# Altium schematic symbol library kmilo17pet-TI_LDO_0_350.SchLib: 1649 symbols (part 9 of 66)
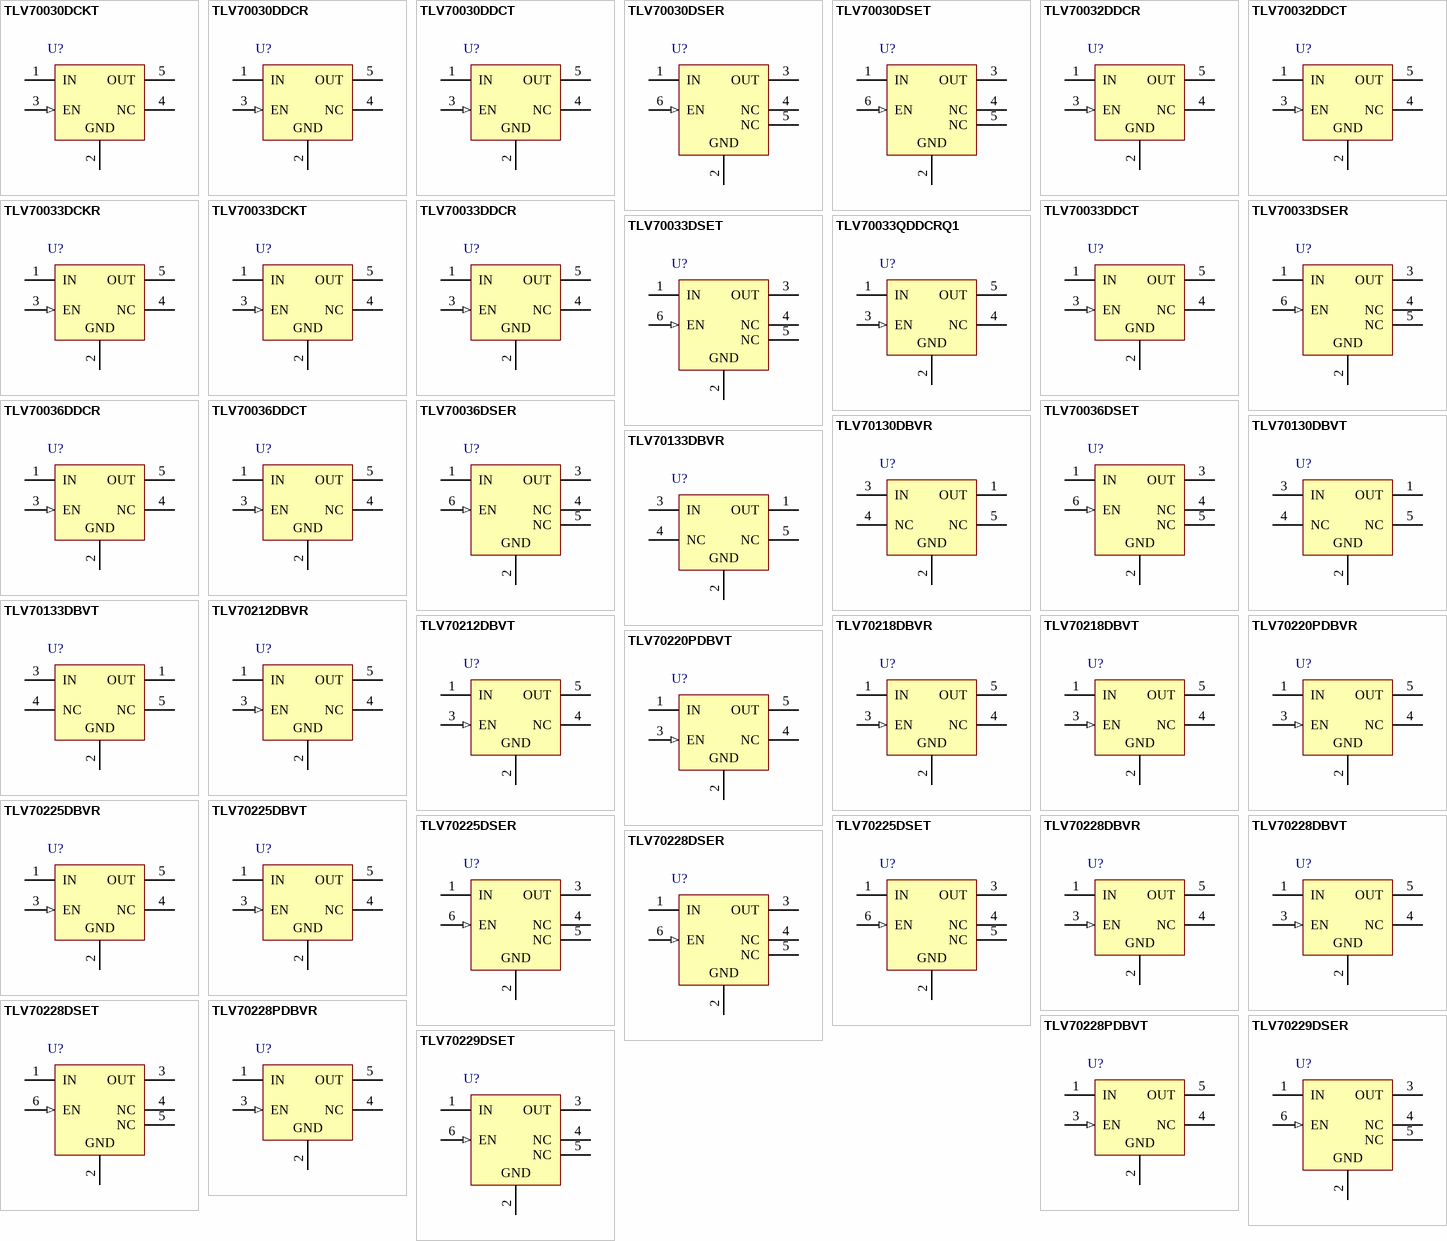
[diagram p50: symbols TLV70030DCKT to TLV70229DSET]

## TLV70228DBVR
designator U?
Single Output LDO, 300 mA, Fixed 2.8 V Output, 2 to 5.5 V Input, with Low IQ, 5-pin SOT-23 (DBV), -40 to 125 degC, Green (RoHS & no Sb/Br); Manufacturer: Texas Instruments; PartNumber: TLV70228DBVR; Accuracy(%): 2; Fixed Output Options(V): 2.8; Iout(Max)(A): 0.3; Iq(Typ)(mA): 0.03; SubFamily: Single Channel LDO; Vdo(Typ)(mV): 220; Vin(Max)(V): 5.5; DatasheetVersion: SLVSAG6B; PackageVersion: 4073253-4/K; PackageReference: DBV5; PackageDescription: 5-Pin Plastic Small Outline, Body 1.60 Ã— 2.90 mm, Pitch 0.95 mm; Supplier 1: Digi-Key; Supplier Part Number 1: TLV70228DBVR-ND; Supplier 2: Newark; Supplier Part Number 2: 13T5901; Supplier 3: Mouser; Supplier Part Number 3: 595-TLV70228DBVR; Eco-Plan: Green (RoHS & no Sb/Br); Vin(Min)(V): 2; Vout Adj(Max)(V): 2.8; Vout Adj(Min)(V): 2.8; Mounting Technology: Surface Mount; Code_JEDEC: MO-178; ComponentLink1Description: Manufacturer URL; ComponentLink1URL: http://www.ti.com/; ComponentLink2Description: Datasheet; ComponentLink2URL: http://www.ti.com/general/docs/lit/getliterature.tsp?genericPartNumber=TLV70228&fileType=pdf; ComponentLink3Description: Package Specification; ComponentLink3URL: http://www.ti.com/litv/pdf/mpds018i
footprint TI-DBV5_N (SOT23, 5-Leads, Body 2.9x1.6mm, Pitch 0.95mm, IPC Medium Density)
footprint TI-DBV5_L (SOT23, 5-Leads, Body 2.9x1.6mm, Pitch 0.95mm, IPC High Density)
footprint TI-DBV5_M (SOT23, 5-Leads, Body 2.9x1.6mm, Pitch 0.95mm, IPC Low Density)
pins: 1 IN (power) "Input supply voltage", 2 GND (power) "Ground", 3 EN (in) "Enable input", 4 NC "No connected", 5 OUT (power) "Regulated output voltage"

## TLV70228DBVT
designator U?
Single Output LDO, 300 mA, Fixed 2.8 V Output, 2 to 5.5 V Input, with Low IQ, 5-pin SOT-23 (DBV), -40 to 125 degC, Green (RoHS & no Sb/Br); Manufacturer: Texas Instruments; PartNumber: TLV70228DBVT; Accuracy(%): 2; Fixed Output Options(V): 2.8; Iout(Max)(A): 0.3; Iq(Typ)(mA): 0.03; SubFamily: Single Channel LDO; Vdo(Typ)(mV): 220; Vin(Max)(V): 5.5; DatasheetVersion: SLVSAG6B; PackageVersion: 4073253-4/K; PackageReference: DBV5; PackageDescription: 5-Pin Plastic Small Outline, Body 1.60 Ã— 2.90 mm, Pitch 0.95 mm; Supplier 1: Digi-Key; Supplier Part Number 1: 296-27891-2-ND; Supplier 2: Digi-Key; Supplier Part Number 2: 296-27891-1-ND; Supplier 3: Digi-Key; Supplier Part Number 3: 296-27891-6-ND; Supplier 4: Newark; Supplier Part Number 4: 13T5902; Supplier 5: Mouser; Supplier Part Number 5: 595-TLV70228DBVT; Eco-Plan: Green (RoHS & no Sb/Br); Vin(Min)(V): 2; Vout Adj(Max)(V): 2.8; Vout Adj(Min)(V): 2.8; Mounting Technology: Surface Mount; Code_JEDEC: MO-178; ComponentLink1Description: Manufacturer URL; ComponentLink1URL: http://www.ti.com/; ComponentLink2Description: Datasheet; ComponentLink2URL: http://www.ti.com/general/docs/lit/getliterature.tsp?genericPartNumber=TLV70228&fileType=pdf; ComponentLink3Description: Package Specification; ComponentLink3URL: http://www.ti.com/litv/pdf/mpds018i
footprint TI-DBV5_N (SOT23, 5-Leads, Body 2.9x1.6mm, Pitch 0.95mm, IPC Medium Density)
footprint TI-DBV5_L (SOT23, 5-Leads, Body 2.9x1.6mm, Pitch 0.95mm, IPC High Density)
footprint TI-DBV5_M (SOT23, 5-Leads, Body 2.9x1.6mm, Pitch 0.95mm, IPC Low Density)
pins: 1 IN (power) "Input supply voltage", 2 GND (power) "Ground", 3 EN (in) "Enable input", 4 NC "No connected", 5 OUT (power) "Regulated output voltage"

## TLV70228DSER
designator U?
Single Output LDO, 300 mA, Fixed 2.8 V Output, 2 to 5.5 V Input, with Low IQ, 6-pin WSON (DSE), -40 to 125 degC, Green (RoHS & no Sb/Br); Manufacturer: Texas Instruments; PartNumber: TLV70228DSER; Accuracy(%): 2; Fixed Output Options(V): 2.8; Iout(Max)(A): 0.3; Iq(Typ)(mA): 0.03; SubFamily: Single Channel LDO; Vdo(Typ)(mV): 220; Vin(Max)(V): 5.5; DatasheetVersion: SLVSAG6B; PackageVersion: 4207810/A; PackageReference: DSE6; PackageDescription: 6-Pin Plastic Small Outline, Body 1.5 x 1.5 mm, Pitch 0.5 mm; Supplier 1: Digi-Key; Supplier Part Number 1: 296-30243-2-ND; Supplier 2: Digi-Key; Supplier Part Number 2: 296-30243-1-ND; Supplier 3: Digi-Key; Supplier Part Number 3: 296-30243-6-ND; Supplier 4: Farnell; Supplier Part Number 4: 2095831; Supplier 5: Newark; Supplier Part Number 5: 87T3939; Supplier 6: Mouser; Supplier Part Number 6: 595-TLV70228DSER; Eco-Plan: Green (RoHS & no Sb/Br); Vin(Min)(V): 2; Vout Adj(Max)(V): 2.8; Vout Adj(Min)(V): 2.8; Mounting Technology: Surface Mount; ComponentLink1Description: Manufacturer URL; ComponentLink1URL: http://www.ti.com/; ComponentLink2Description: Datasheet; ComponentLink2URL: http://www.ti.com/general/docs/lit/getliterature.tsp?genericPartNumber=TLV70228&fileType=pdf; ComponentLink3Description: Package Specification; ComponentLink3URL: http://www.ti.com/litv/pdf/mpds287
footprint TI-DSE6_V (SON, 6-Leads, Body 1.5x1.5mm, Pitch 0.5mm)
pins: 1 IN (power) "Input pin. A small 1-uF ceramic capacitor is recommended from this pin to ground to assure stability and good transient performance. See Input and Output Capacitor Requirements in the Application Information section for more (See Datasheet)", 2 GND (power) "Ground pin", 3 OUT (power) "Regulated output voltage pin. A small 1-uF ceramic capacitor is needed from this pin to ground to assure stability. See Input and Output Capacitor Requirements in the Application Information section for more details", 4 NC "No connection. This pin can be tied to ground to improve thermal dissipation", 5 NC "No connection. This pin can be tied to ground to improve thermal dissipation", 6 EN (in) "Enable pin. Driving EN over 0.9 V turns on the regulator. Driving EN below 0.4 V puts the regulator into shutdown mode and reduces operating current to 1 uA, nominal"

## TLV70228DSET
designator U?
Single Output LDO, 300 mA, Fixed 2.8 V Output, 2 to 5.5 V Input, with Low IQ, 6-pin WSON (DSE), -40 to 125 degC, Green (RoHS & no Sb/Br); Manufacturer: Texas Instruments; PartNumber: TLV70228DSET; Accuracy(%): 2; Fixed Output Options(V): 2.8; Iout(Max)(A): 0.3; Iq(Typ)(mA): 0.03; SubFamily: Single Channel LDO; Vdo(Typ)(mV): 220; Vin(Max)(V): 5.5; DatasheetVersion: SLVSAG6B; PackageVersion: 4207810/A; PackageReference: DSE6; PackageDescription: 6-Pin Plastic Small Outline, Body 1.5 x 1.5 mm, Pitch 0.5 mm; Supplier 1: Digi-Key; Supplier Part Number 1: 296-32414-2-ND; Supplier 2: Digi-Key; Supplier Part Number 2: 296-32414-1-ND; Supplier 3: Digi-Key; Supplier Part Number 3: 296-32414-6-ND; Supplier 4: Mouser; Supplier Part Number 4: 595-TLV70228DSET; Eco-Plan: Green (RoHS & no Sb/Br); Vin(Min)(V): 2; Vout Adj(Max)(V): 2.8; Vout Adj(Min)(V): 2.8; Mounting Technology: Surface Mount; ComponentLink1Description: Manufacturer URL; ComponentLink1URL: http://www.ti.com/; ComponentLink2Description: Datasheet; ComponentLink2URL: http://www.ti.com/general/docs/lit/getliterature.tsp?genericPartNumber=TLV70228&fileType=pdf; ComponentLink3Description: Package Specification; ComponentLink3URL: http://www.ti.com/litv/pdf/mpds287
footprint TI-DSE6_V (SON, 6-Leads, Body 1.5x1.5mm, Pitch 0.5mm)
pins: 1 IN (power) "Input pin. A small 1-uF ceramic capacitor is recommended from this pin to ground to assure stability and good transient performance. See Input and Output Capacitor Requirements in the Application Information section for more (See Datasheet)", 2 GND (power) "Ground pin", 3 OUT (power) "Regulated output voltage pin. A small 1-uF ceramic capacitor is needed from this pin to ground to assure stability. See Input and Output Capacitor Requirements in the Application Information section for more details", 4 NC "No connection. This pin can be tied to ground to improve thermal dissipation", 5 NC "No connection. This pin can be tied to ground to improve thermal dissipation", 6 EN (in) "Enable pin. Driving EN over 0.9 V turns on the regulator. Driving EN below 0.4 V puts the regulator into shutdown mode and reduces operating current to 1 uA, nominal"

## TLV70228PDBVR
designator U?
Single Output LDO, 300 mA, Fixed 2.8 V Output, 2 to 5.5 V Input, with Low IQ, 5-pin SOT-23 (DBV), -40 to 125 degC, Green (RoHS & no Sb/Br); Manufacturer: Texas Instruments; PartNumber: TLV70228PDBVR; Accuracy(%): 2; Fixed Output Options(V): 2.8; Iout(Max)(A): 0.3; Iq(Typ)(mA): 0.03; SubFamily: Single Channel LDO; Vdo(Typ)(mV): 220; Vin(Max)(V): 5.5; DatasheetVersion: SLVSAG6B; PackageVersion: 4073253-4/K; PackageReference: DBV5; PackageDescription: 5-Pin Plastic Small Outline, Body 1.60 Ã— 2.90 mm, Pitch 0.95 mm; Supplier 1: Digi-Key; Supplier Part Number 1: TLV70228PDBVR-ND; Supplier 2: Mouser; Supplier Part Number 2: 595-TLV70228PDBVR; Eco-Plan: Green (RoHS & no Sb/Br); Vin(Min)(V): 2; Vout Adj(Max)(V): 2.8; Vout Adj(Min)(V): 2.8; Mounting Technology: Surface Mount; Code_JEDEC: MO-178; ComponentLink1Description: Manufacturer URL; ComponentLink1URL: http://www.ti.com/; ComponentLink2Description: Datasheet; ComponentLink2URL: http://www.ti.com/general/docs/lit/getliterature.tsp?genericPartNumber=TLV70228&fileType=pdf; ComponentLink3Description: Package Specification; ComponentLink3URL: http://www.ti.com/litv/pdf/mpds018i
footprint TI-DBV5_N (SOT23, 5-Leads, Body 2.9x1.6mm, Pitch 0.95mm, IPC Medium Density)
footprint TI-DBV5_L (SOT23, 5-Leads, Body 2.9x1.6mm, Pitch 0.95mm, IPC High Density)
footprint TI-DBV5_M (SOT23, 5-Leads, Body 2.9x1.6mm, Pitch 0.95mm, IPC Low Density)
pins: 1 IN (power) "Input supply voltage", 2 GND (power) "Ground", 3 EN (in) "Enable input", 4 NC "No connected", 5 OUT (power) "Regulated output voltage"

## TLV70228PDBVT
designator U?
Single Output LDO, 300 mA, Fixed 2.8 V Output, 2 to 5.5 V Input, with Low IQ, 5-pin SOT-23 (DBV), -40 to 125 degC, Green (RoHS & no Sb/Br); Manufacturer: Texas Instruments; PartNumber: TLV70228PDBVT; Accuracy(%): 2; Fixed Output Options(V): 2.8; Iout(Max)(A): 0.3; Iq(Typ)(mA): 0.03; SubFamily: Single Channel LDO; Vdo(Typ)(mV): 220; Vin(Max)(V): 5.5; DatasheetVersion: SLVSAG6B; PackageVersion: 4073253-4/K; PackageReference: DBV5; PackageDescription: 5-Pin Plastic Small Outline, Body 1.60 Ã— 2.90 mm, Pitch 0.95 mm; Supplier 1: Digi-Key; Supplier Part Number 1: 296-27892-2-ND; Supplier 2: Digi-Key; Supplier Part Number 2: 296-27892-1-ND; Supplier 3: Digi-Key; Supplier Part Number 3: 296-27892-6-ND; Supplier 4: Mouser; Supplier Part Number 4: 595-TLV70228PDBVT; Eco-Plan: Green (RoHS & no Sb/Br); Vin(Min)(V): 2; Vout Adj(Max)(V): 2.8; Vout Adj(Min)(V): 2.8; Mounting Technology: Surface Mount; Code_JEDEC: MO-178; ComponentLink1Description: Manufacturer URL; ComponentLink1URL: http://www.ti.com/; ComponentLink2Description: Datasheet; ComponentLink2URL: http://www.ti.com/general/docs/lit/getliterature.tsp?genericPartNumber=TLV70228&fileType=pdf; ComponentLink3Description: Package Specification; ComponentLink3URL: http://www.ti.com/litv/pdf/mpds018i
footprint TI-DBV5_N (SOT23, 5-Leads, Body 2.9x1.6mm, Pitch 0.95mm, IPC Medium Density)
footprint TI-DBV5_L (SOT23, 5-Leads, Body 2.9x1.6mm, Pitch 0.95mm, IPC High Density)
footprint TI-DBV5_M (SOT23, 5-Leads, Body 2.9x1.6mm, Pitch 0.95mm, IPC Low Density)
pins: 1 IN (power) "Input supply voltage", 2 GND (power) "Ground", 3 EN (in) "Enable input", 4 NC "No connected", 5 OUT (power) "Regulated output voltage"

## TLV70229DSER
designator U?
Single Output LDO, 300 mA, Fixed 2.9 V Output, 2 to 5.5 V Input, with Low IQ, 6-pin WSON (DSE), -40 to 125 degC, Green (RoHS & no Sb/Br); Manufacturer: Texas Instruments; PartNumber: TLV70229DSER; Accuracy(%): 2; Fixed Output Options(V): 2.9; Iout(Max)(A): 0.3; Iq(Typ)(mA): 0.03; SubFamily: Single Channel LDO; Vdo(Typ)(mV): 220; Vin(Max)(V): 5.5; DatasheetVersion: SLVSAG6B; PackageVersion: 4207810/A; PackageReference: DSE6; PackageDescription: 6-Pin Plastic Small Outline, Body 1.5 x 1.5 mm, Pitch 0.5 mm; Supplier 1: Digi-Key; Supplier Part Number 1: TLV70229DSER-ND; Supplier 2: Mouser; Supplier Part Number 2: 595-TLV70229DSER; Eco-Plan: Green (RoHS & no Sb/Br); Vin(Min)(V): 2; Vout Adj(Max)(V): 2.9; Vout Adj(Min)(V): 2.9; Mounting Technology: Surface Mount; ComponentLink1Description: Manufacturer URL; ComponentLink1URL: http://www.ti.com/; ComponentLink2Description: Datasheet; ComponentLink2URL: http://www.ti.com/general/docs/lit/getliterature.tsp?genericPartNumber=TLV70229&fileType=pdf; ComponentLink3Description: Package Specification; ComponentLink3URL: http://www.ti.com/litv/pdf/mpds287
footprint TI-DSE6_V (SON, 6-Leads, Body 1.5x1.5mm, Pitch 0.5mm)
pins: 1 IN (power) "Input pin. A small 1-uF ceramic capacitor is recommended from this pin to ground to assure stability and good transient performance. See Input and Output Capacitor Requirements in the Application Information section for more (See Datasheet)", 2 GND (power) "Ground pin", 3 OUT (power) "Regulated output voltage pin. A small 1-uF ceramic capacitor is needed from this pin to ground to assure stability. See Input and Output Capacitor Requirements in the Application Information section for more details", 4 NC "No connection. This pin can be tied to ground to improve thermal dissipation", 5 NC "No connection. This pin can be tied to ground to improve thermal dissipation", 6 EN (in) "Enable pin. Driving EN over 0.9 V turns on the regulator. Driving EN below 0.4 V puts the regulator into shutdown mode and reduces operating current to 1 uA, nominal"

## TLV70229DSET
designator U?
Single Output LDO, 300 mA, Fixed 2.9 V Output, 2 to 5.5 V Input, with Low IQ, 6-pin WSON (DSE), -40 to 125 degC, Green (RoHS & no Sb/Br); Manufacturer: Texas Instruments; PartNumber: TLV70229DSET; Accuracy(%): 2; Fixed Output Options(V): 2.9; Iout(Max)(A): 0.3; Iq(Typ)(mA): 0.03; SubFamily: Single Channel LDO; Vdo(Typ)(mV): 220; Vin(Max)(V): 5.5; DatasheetVersion: SLVSAG6B; PackageVersion: 4207810/A; PackageReference: DSE6; PackageDescription: 6-Pin Plastic Small Outline, Body 1.5 x 1.5 mm, Pitch 0.5 mm; Supplier 1: Digi-Key; Supplier Part Number 1: 296-28337-2-ND; Supplier 2: Digi-Key; Supplier Part Number 2: 296-28337-1-ND; Supplier 3: Digi-Key; Supplier Part Number 3: 296-28337-6-ND; Supplier 4: Mouser; Supplier Part Number 4: 595-TLV70229DSET; Eco-Plan: Green (RoHS & no Sb/Br); Vin(Min)(V): 2; Vout Adj(Max)(V): 2.9; Vout Adj(Min)(V): 2.9; Mounting Technology: Surface Mount; ComponentLink1Description: Manufacturer URL; ComponentLink1URL: http://www.ti.com/; ComponentLink2Description: Datasheet; ComponentLink2URL: http://www.ti.com/general/docs/lit/getliterature.tsp?genericPartNumber=TLV70229&fileType=pdf; ComponentLink3Description: Package Specification; ComponentLink3URL: http://www.ti.com/litv/pdf/mpds287
footprint TI-DSE6_V (SON, 6-Leads, Body 1.5x1.5mm, Pitch 0.5mm)
pins: 1 IN (power) "Input pin. A small 1-uF ceramic capacitor is recommended from this pin to ground to assure stability and good transient performance. See Input and Output Capacitor Requirements in the Application Information section for more (See Datasheet)", 2 GND (power) "Ground pin", 3 OUT (power) "Regulated output voltage pin. A small 1-uF ceramic capacitor is needed from this pin to ground to assure stability. See Input and Output Capacitor Requirements in the Application Information section for more details", 4 NC "No connection. This pin can be tied to ground to improve thermal dissipation", 5 NC "No connection. This pin can be tied to ground to improve thermal dissipation", 6 EN (in) "Enable pin. Driving EN over 0.9 V turns on the regulator. Driving EN below 0.4 V puts the regulator into shutdown mode and reduces operating current to 1 uA, nominal"

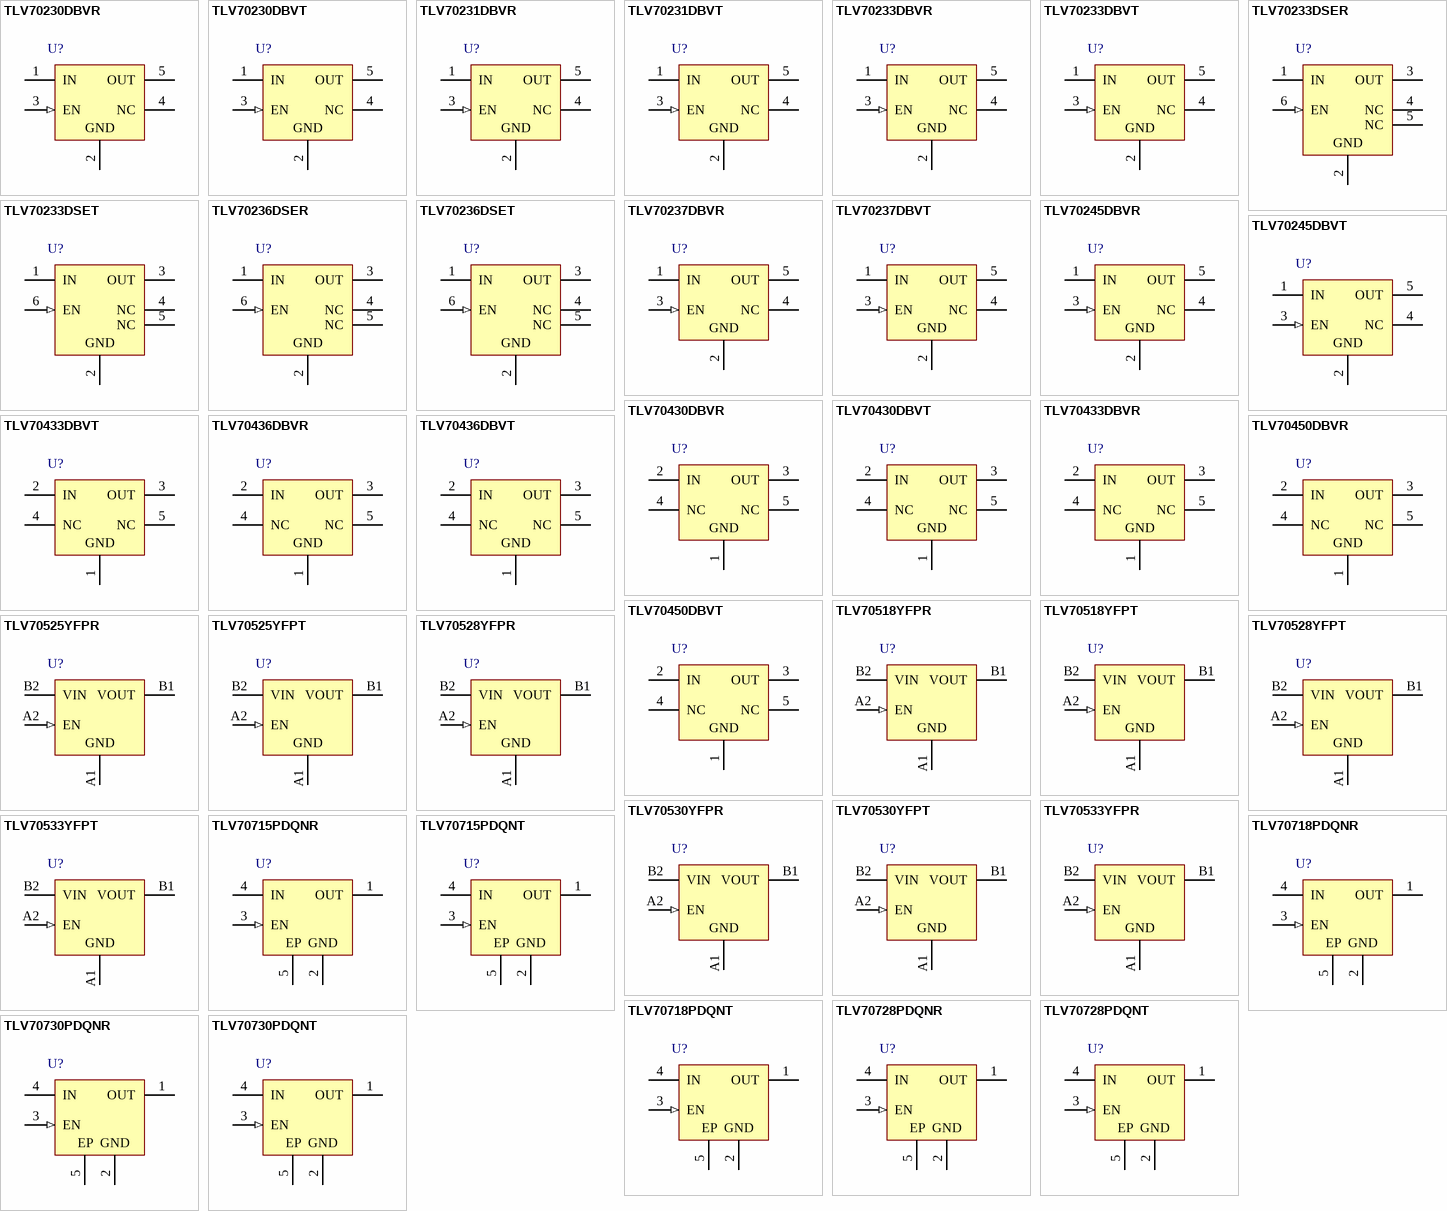
[diagram p6: symbols TLV70230DBVR to TLV70730PDQNT]

## TLV70230DBVR
designator U?
Single Output LDO, 300 mA, Fixed 3 V Output, 2 to 5.5 V Input, with Low IQ, 5-pin SOT-23 (DBV), -40 to 125 degC, Green (RoHS & no Sb/Br); Manufacturer: Texas Instruments; PartNumber: TLV70230DBVR; Accuracy(%): 2; Fixed Output Options(V): 3; Iout(Max)(A): 0.3; Iq(Typ)(mA): 0.03; SubFamily: Single Channel LDO; Vdo(Typ)(mV): 220; Vin(Max)(V): 5.5; DatasheetVersion: SLVSAG6B; PackageVersion: 4073253-4/K; PackageReference: DBV5; PackageDescription: 5-Pin Plastic Small Outline, Body 1.60 Ã— 2.90 mm, Pitch 0.95 mm; Supplier 1: Digi-Key; Supplier Part Number 1: TLV70230DBVR-ND; Supplier 2: Newark; Supplier Part Number 2: 13T5905; Supplier 3: Mouser; Supplier Part Number 3: 595-TLV70230DBVR; Eco-Plan: Green (RoHS & no Sb/Br); Vin(Min)(V): 2; Vout Adj(Max)(V): 3; Vout Adj(Min)(V): 3; Mounting Technology: Surface Mount; Code_JEDEC: MO-178; ComponentLink1Description: Manufacturer URL; ComponentLink1URL: http://www.ti.com/; ComponentLink2Description: Datasheet; ComponentLink2URL: http://www.ti.com/general/docs/lit/getliterature.tsp?genericPartNumber=TLV70230&fileType=pdf; ComponentLink3Description: Package Specification; ComponentLink3URL: http://www.ti.com/litv/pdf/mpds018i
footprint TI-DBV5_N (SOT23, 5-Leads, Body 2.9x1.6mm, Pitch 0.95mm, IPC Medium Density)
footprint TI-DBV5_L (SOT23, 5-Leads, Body 2.9x1.6mm, Pitch 0.95mm, IPC High Density)
footprint TI-DBV5_M (SOT23, 5-Leads, Body 2.9x1.6mm, Pitch 0.95mm, IPC Low Density)
pins: 1 IN (power) "Input supply voltage", 2 GND (power) "Ground", 3 EN (in) "Enable input", 4 NC "No connected", 5 OUT (power) "Regulated output voltage"

## TLV70230DBVT
designator U?
Single Output LDO, 300 mA, Fixed 3 V Output, 2 to 5.5 V Input, with Low IQ, 5-pin SOT-23 (DBV), -40 to 125 degC, Green (RoHS & no Sb/Br); Manufacturer: Texas Instruments; PartNumber: TLV70230DBVT; Accuracy(%): 2; Fixed Output Options(V): 3; Iout(Max)(A): 0.3; Iq(Typ)(mA): 0.03; SubFamily: Single Channel LDO; Vdo(Typ)(mV): 220; Vin(Max)(V): 5.5; DatasheetVersion: SLVSAG6B; PackageVersion: 4073253-4/K; PackageReference: DBV5; PackageDescription: 5-Pin Plastic Small Outline, Body 1.60 Ã— 2.90 mm, Pitch 0.95 mm; Supplier 1: Digi-Key; Supplier Part Number 1: 296-27893-2-ND; Supplier 2: Digi-Key; Supplier Part Number 2: 296-27893-1-ND; Supplier 3: Digi-Key; Supplier Part Number 3: 296-27893-6-ND; Supplier 4: Newark; Supplier Part Number 4: 13T5906; Supplier 5: Mouser; Supplier Part Number 5: 595-TLV70230DBVT; Eco-Plan: Green (RoHS & no Sb/Br); Vin(Min)(V): 2; Vout Adj(Max)(V): 3; Vout Adj(Min)(V): 3; Mounting Technology: Surface Mount; Code_JEDEC: MO-178; ComponentLink1Description: Manufacturer URL; ComponentLink1URL: http://www.ti.com/; ComponentLink2Description: Datasheet; ComponentLink2URL: http://www.ti.com/general/docs/lit/getliterature.tsp?genericPartNumber=TLV70230&fileType=pdf; ComponentLink3Description: Package Specification; ComponentLink3URL: http://www.ti.com/litv/pdf/mpds018i
footprint TI-DBV5_N (SOT23, 5-Leads, Body 2.9x1.6mm, Pitch 0.95mm, IPC Medium Density)
footprint TI-DBV5_L (SOT23, 5-Leads, Body 2.9x1.6mm, Pitch 0.95mm, IPC High Density)
footprint TI-DBV5_M (SOT23, 5-Leads, Body 2.9x1.6mm, Pitch 0.95mm, IPC Low Density)
pins: 1 IN (power) "Input supply voltage", 2 GND (power) "Ground", 3 EN (in) "Enable input", 4 NC "No connected", 5 OUT (power) "Regulated output voltage"

## TLV70231DBVR
designator U?
Single Output LDO, 300 mA, Fixed 3.1 V Output, 2 to 5.5 V Input, with Low IQ, 5-pin SOT-23 (DBV), -40 to 125 degC, Green (RoHS & no Sb/Br); Manufacturer: Texas Instruments; PartNumber: TLV70231DBVR; Accuracy(%): 2; Fixed Output Options(V): 3.1; Iout(Max)(A): 0.3; Iq(Typ)(mA): 0.03; SubFamily: Single Channel LDO; Vdo(Typ)(mV): 220; Vin(Max)(V): 5.5; DatasheetVersion: SLVSAG6B; PackageVersion: 4073253-4/K; PackageReference: DBV5; PackageDescription: 5-Pin Plastic Small Outline, Body 1.60 Ã— 2.90 mm, Pitch 0.95 mm; Supplier 1: Digi-Key; Supplier Part Number 1: TLV70231DBVR-ND; Supplier 2: Newark; Supplier Part Number 2: 13T5907; Supplier 3: Mouser; Supplier Part Number 3: 595-TLV70231DBVR; Eco-Plan: Green (RoHS & no Sb/Br); Vin(Min)(V): 2; Vout Adj(Max)(V): 3.1; Vout Adj(Min)(V): 3.1; Mounting Technology: Surface Mount; Code_JEDEC: MO-178; ComponentLink1Description: Manufacturer URL; ComponentLink1URL: http://www.ti.com/; ComponentLink2Description: Datasheet; ComponentLink2URL: http://www.ti.com/general/docs/lit/getliterature.tsp?genericPartNumber=TLV70231&fileType=pdf; ComponentLink3Description: Package Specification; ComponentLink3URL: http://www.ti.com/litv/pdf/mpds018i
footprint TI-DBV5_N (SOT23, 5-Leads, Body 2.9x1.6mm, Pitch 0.95mm, IPC Medium Density)
footprint TI-DBV5_L (SOT23, 5-Leads, Body 2.9x1.6mm, Pitch 0.95mm, IPC High Density)
footprint TI-DBV5_M (SOT23, 5-Leads, Body 2.9x1.6mm, Pitch 0.95mm, IPC Low Density)
pins: 1 IN (power) "Input supply voltage", 2 GND (power) "Ground", 3 EN (in) "Enable input", 4 NC "No connected", 5 OUT (power) "Regulated output voltage"

## TLV70231DBVT
designator U?
Single Output LDO, 300 mA, Fixed 3.1 V Output, 2 to 5.5 V Input, with Low IQ, 5-pin SOT-23 (DBV), -40 to 125 degC, Green (RoHS & no Sb/Br); Manufacturer: Texas Instruments; PartNumber: TLV70231DBVT; Accuracy(%): 2; Fixed Output Options(V): 3.1; Iout(Max)(A): 0.3; Iq(Typ)(mA): 0.03; SubFamily: Single Channel LDO; Vdo(Typ)(mV): 220; Vin(Max)(V): 5.5; DatasheetVersion: SLVSAG6B; PackageVersion: 4073253-4/K; PackageReference: DBV5; PackageDescription: 5-Pin Plastic Small Outline, Body 1.60 Ã— 2.90 mm, Pitch 0.95 mm; Supplier 1: Digi-Key; Supplier Part Number 1: 296-27894-2-ND; Supplier 2: Digi-Key; Supplier Part Number 2: 296-27894-1-ND; Supplier 3: Digi-Key; Supplier Part Number 3: 296-27894-6-ND; Supplier 4: Newark; Supplier Part Number 4: 13T5908; Supplier 5: Mouser; Supplier Part Number 5: 595-TLV70231DBVT; Eco-Plan: Green (RoHS & no Sb/Br); Vin(Min)(V): 2; Vout Adj(Max)(V): 3.1; Vout Adj(Min)(V): 3.1; Mounting Technology: Surface Mount; Code_JEDEC: MO-178; ComponentLink1Description: Manufacturer URL; ComponentLink1URL: http://www.ti.com/; ComponentLink2Description: Datasheet; ComponentLink2URL: http://www.ti.com/general/docs/lit/getliterature.tsp?genericPartNumber=TLV70231&fileType=pdf; ComponentLink3Description: Package Specification; ComponentLink3URL: http://www.ti.com/litv/pdf/mpds018i
footprint TI-DBV5_N (SOT23, 5-Leads, Body 2.9x1.6mm, Pitch 0.95mm, IPC Medium Density)
footprint TI-DBV5_L (SOT23, 5-Leads, Body 2.9x1.6mm, Pitch 0.95mm, IPC High Density)
footprint TI-DBV5_M (SOT23, 5-Leads, Body 2.9x1.6mm, Pitch 0.95mm, IPC Low Density)
pins: 1 IN (power) "Input supply voltage", 2 GND (power) "Ground", 3 EN (in) "Enable input", 4 NC "No connected", 5 OUT (power) "Regulated output voltage"

## TLV70233DBVR
designator U?
Single Output LDO, 300 mA, Fixed 3.3 V Output, 2 to 5.5 V Input, with Low IQ, 5-pin SOT-23 (DBV), -40 to 125 degC, Green (RoHS & no Sb/Br); Manufacturer: Texas Instruments; PartNumber: TLV70233DBVR; Accuracy(%): 2; Fixed Output Options(V): 3.3; Iout(Max)(A): 0.3; Iq(Typ)(mA): 0.03; SubFamily: Single Channel LDO; Vdo(Typ)(mV): 220; Vin(Max)(V): 5.5; DatasheetVersion: SLVSAG6B; PackageVersion: 4073253-4/K; PackageReference: DBV5; PackageDescription: 5-Pin Plastic Small Outline, Body 1.60 Ã— 2.90 mm, Pitch 0.95 mm; Supplier 1: Digi-Key; Supplier Part Number 1: 296-32415-2-ND; Supplier 2: Digi-Key; Supplier Part Number 2: 296-32415-1-ND; Supplier 3: Digi-Key; Supplier Part Number 3: 296-32415-6-ND; Supplier 4: Newark; Supplier Part Number 4: 13T5909; Supplier 5: Mouser; Supplier Part Number 5: 595-TLV70233DBVR; Eco-Plan: Green (RoHS & no Sb/Br); Vin(Min)(V): 2; Vout Adj(Max)(V): 3.3; Vout Adj(Min)(V): 3.3; Mounting Technology: Surface Mount; Code_JEDEC: MO-178; ComponentLink1Description: Manufacturer URL; ComponentLink1URL: http://www.ti.com/; ComponentLink2Description: Datasheet; ComponentLink2URL: http://www.ti.com/general/docs/lit/getliterature.tsp?genericPartNumber=TLV70233&fileType=pdf; ComponentLink3Description: Package Specification; ComponentLink3URL: http://www.ti.com/litv/pdf/mpds018i
footprint TI-DBV5_N (SOT23, 5-Leads, Body 2.9x1.6mm, Pitch 0.95mm, IPC Medium Density)
footprint TI-DBV5_L (SOT23, 5-Leads, Body 2.9x1.6mm, Pitch 0.95mm, IPC High Density)
footprint TI-DBV5_M (SOT23, 5-Leads, Body 2.9x1.6mm, Pitch 0.95mm, IPC Low Density)
pins: 1 IN (power) "Input supply voltage", 2 GND (power) "Ground", 3 EN (in) "Enable input", 4 NC "No connected", 5 OUT (power) "Regulated output voltage"

## TLV70233DBVT
designator U?
Single Output LDO, 300 mA, Fixed 3.3 V Output, 2 to 5.5 V Input, with Low IQ, 5-pin SOT-23 (DBV), -40 to 125 degC, Green (RoHS & no Sb/Br); Manufacturer: Texas Instruments; PartNumber: TLV70233DBVT; Accuracy(%): 2; Fixed Output Options(V): 3.3; Iout(Max)(A): 0.3; Iq(Typ)(mA): 0.03; SubFamily: Single Channel LDO; Vdo(Typ)(mV): 220; Vin(Max)(V): 5.5; DatasheetVersion: SLVSAG6B; PackageVersion: 4073253-4/K; PackageReference: DBV5; PackageDescription: 5-Pin Plastic Small Outline, Body 1.60 Ã— 2.90 mm, Pitch 0.95 mm; Supplier 1: Digi-Key; Supplier Part Number 1: 296-27895-2-ND; Supplier 2: Digi-Key; Supplier Part Number 2: 296-27895-1-ND; Supplier 3: Digi-Key; Supplier Part Number 3: 296-27895-6-ND; Supplier 4: Newark; Supplier Part Number 4: 13T5910; Supplier 5: Mouser; Supplier Part Number 5: 595-TLV70233DBVT; Eco-Plan: Green (RoHS & no Sb/Br); Vin(Min)(V): 2; Vout Adj(Max)(V): 3.3; Vout Adj(Min)(V): 3.3; Mounting Technology: Surface Mount; Code_JEDEC: MO-178; ComponentLink1Description: Manufacturer URL; ComponentLink1URL: http://www.ti.com/; ComponentLink2Description: Datasheet; ComponentLink2URL: http://www.ti.com/general/docs/lit/getliterature.tsp?genericPartNumber=TLV70233&fileType=pdf; ComponentLink3Description: Package Specification; ComponentLink3URL: http://www.ti.com/litv/pdf/mpds018i
footprint TI-DBV5_N (SOT23, 5-Leads, Body 2.9x1.6mm, Pitch 0.95mm, IPC Medium Density)
footprint TI-DBV5_L (SOT23, 5-Leads, Body 2.9x1.6mm, Pitch 0.95mm, IPC High Density)
footprint TI-DBV5_M (SOT23, 5-Leads, Body 2.9x1.6mm, Pitch 0.95mm, IPC Low Density)
pins: 1 IN (power) "Input supply voltage", 2 GND (power) "Ground", 3 EN (in) "Enable input", 4 NC "No connected", 5 OUT (power) "Regulated output voltage"

## TLV70233DSER
designator U?
Single Output LDO, 300 mA, Fixed 3.3 V Output, 2 to 5.5 V Input, with Low IQ, 6-pin WSON (DSE), -40 to 125 degC, Green (RoHS & no Sb/Br); Manufacturer: Texas Instruments; PartNumber: TLV70233DSER; Accuracy(%): 2; Fixed Output Options(V): 3.3; Iout(Max)(A): 0.3; Iq(Typ)(mA): 0.03; SubFamily: Single Channel LDO; Vdo(Typ)(mV): 220; Vin(Max)(V): 5.5; DatasheetVersion: SLVSAG6B; PackageVersion: 4207810/A; PackageReference: DSE6; PackageDescription: 6-Pin Plastic Small Outline, Body 1.5 x 1.5 mm, Pitch 0.5 mm; Supplier 1: Digi-Key; Supplier Part Number 1: 296-30242-2-ND; Supplier 2: Digi-Key; Supplier Part Number 2: 296-30242-1-ND; Supplier 3: Digi-Key; Supplier Part Number 3: 296-30242-6-ND; Supplier 4: Mouser; Supplier Part Number 4: 595-TLV70233DSER; Eco-Plan: Green (RoHS & no Sb/Br); Vin(Min)(V): 2; Vout Adj(Max)(V): 3.3; Vout Adj(Min)(V): 3.3; Mounting Technology: Surface Mount; ComponentLink1Description: Manufacturer URL; ComponentLink1URL: http://www.ti.com/; ComponentLink2Description: Datasheet; ComponentLink2URL: http://www.ti.com/general/docs/lit/getliterature.tsp?genericPartNumber=TLV70233&fileType=pdf; ComponentLink3Description: Package Specification; ComponentLink3URL: http://www.ti.com/litv/pdf/mpds287
footprint TI-DSE6_V (SON, 6-Leads, Body 1.5x1.5mm, Pitch 0.5mm)
pins: 1 IN (power) "Input pin. A small 1-uF ceramic capacitor is recommended from this pin to ground to assure stability and good transient performance. See Input and Output Capacitor Requirements in the Application Information section for more (See Datasheet)", 2 GND (power) "Ground pin", 3 OUT (power) "Regulated output voltage pin. A small 1-uF ceramic capacitor is needed from this pin to ground to assure stability. See Input and Output Capacitor Requirements in the Application Information section for more details", 4 NC "No connection. This pin can be tied to ground to improve thermal dissipation", 5 NC "No connection. This pin can be tied to ground to improve thermal dissipation", 6 EN (in) "Enable pin. Driving EN over 0.9 V turns on the regulator. Driving EN below 0.4 V puts the regulator into shutdown mode and reduces operating current to 1 uA, nominal"

## TLV70233DSET
designator U?
Single Output LDO, 300 mA, Fixed 3.3 V Output, 2 to 5.5 V Input, with Low IQ, 6-pin WSON (DSE), -40 to 125 degC, Green (RoHS & no Sb/Br); Manufacturer: Texas Instruments; PartNumber: TLV70233DSET; Accuracy(%): 2; Fixed Output Options(V): 3.3; Iout(Max)(A): 0.3; Iq(Typ)(mA): 0.03; SubFamily: Single Channel LDO; Vdo(Typ)(mV): 220; Vin(Max)(V): 5.5; DatasheetVersion: SLVSAG6B; PackageVersion: 4207810/A; PackageReference: DSE6; PackageDescription: 6-Pin Plastic Small Outline, Body 1.5 x 1.5 mm, Pitch 0.5 mm; Supplier 1: Digi-Key; Supplier Part Number 1: 296-32416-2-ND; Supplier 2: Digi-Key; Supplier Part Number 2: 296-32416-1-ND; Supplier 3: Digi-Key; Supplier Part Number 3: 296-32416-6-ND; Supplier 4: Newark; Supplier Part Number 4: 87T3942; Supplier 5: Mouser; Supplier Part Number 5: 595-TLV70233DSET; Eco-Plan: Green (RoHS & no Sb/Br); Vin(Min)(V): 2; Vout Adj(Max)(V): 3.3; Vout Adj(Min)(V): 3.3; Mounting Technology: Surface Mount; ComponentLink1Description: Manufacturer URL; ComponentLink1URL: http://www.ti.com/; ComponentLink2Description: Datasheet; ComponentLink2URL: http://www.ti.com/general/docs/lit/getliterature.tsp?genericPartNumber=TLV70233&fileType=pdf; ComponentLink3Description: Package Specification; ComponentLink3URL: http://www.ti.com/litv/pdf/mpds287
footprint TI-DSE6_V (SON, 6-Leads, Body 1.5x1.5mm, Pitch 0.5mm)
pins: 1 IN (power) "Input pin. A small 1-uF ceramic capacitor is recommended from this pin to ground to assure stability and good transient performance. See Input and Output Capacitor Requirements in the Application Information section for more (See Datasheet)", 2 GND (power) "Ground pin", 3 OUT (power) "Regulated output voltage pin. A small 1-uF ceramic capacitor is needed from this pin to ground to assure stability. See Input and Output Capacitor Requirements in the Application Information section for more details", 4 NC "No connection. This pin can be tied to ground to improve thermal dissipation", 5 NC "No connection. This pin can be tied to ground to improve thermal dissipation", 6 EN (in) "Enable pin. Driving EN over 0.9 V turns on the regulator. Driving EN below 0.4 V puts the regulator into shutdown mode and reduces operating current to 1 uA, nominal"

## TLV70236DSER
designator U?
Single Output LDO, 300 mA, Fixed 3.6 V Output, 2 to 5.5 V Input, with Low IQ, 6-pin WSON (DSE), -40 to 125 degC, Green (RoHS & no Sb/Br); Manufacturer: Texas Instruments; PartNumber: TLV70236DSER; Accuracy(%): 2; Fixed Output Options(V): 3.6; Iout(Max)(A): 0.3; Iq(Typ)(mA): 0.03; SubFamily: Single Channel LDO; Vdo(Typ)(mV): 220; Vin(Max)(V): 5.5; DatasheetVersion: SLVSAG6B; PackageVersion: 4207810/A; PackageReference: DSE6; PackageDescription: 6-Pin Plastic Small Outline, Body 1.5 x 1.5 mm, Pitch 0.5 mm; Supplier 1: Digi-Key; Supplier Part Number 1: 296-30244-2-ND; Supplier 2: Digi-Key; Supplier Part Number 2: 296-30244-1-ND; Supplier 3: Digi-Key; Supplier Part Number 3: 296-30244-6-ND; Supplier 4: Farnell; Supplier Part Number 4: 2095832; Supplier 5: Newark; Supplier Part Number 5: 91T5093; Supplier 6: Mouser; Supplier Part Number 6: 595-TLV70236DSER; Eco-Plan: Green (RoHS & no Sb/Br); Vin(Min)(V): 2; Vout Adj(Max)(V): 3.6; Vout Adj(Min)(V): 3.6; Mounting Technology: Surface Mount; ComponentLink1Description: Manufacturer URL; ComponentLink1URL: http://www.ti.com/; ComponentLink2Description: Datasheet; ComponentLink2URL: http://www.ti.com/general/docs/lit/getliterature.tsp?genericPartNumber=TLV70236&fileType=pdf; ComponentLink3Description: Package Specification; ComponentLink3URL: http://www.ti.com/litv/pdf/mpds287
footprint TI-DSE6_V (SON, 6-Leads, Body 1.5x1.5mm, Pitch 0.5mm)
pins: 1 IN (power) "Input pin. A small 1-uF ceramic capacitor is recommended from this pin to ground to assure stability and good transient performance. See Input and Output Capacitor Requirements in the Application Information section for more (See Datasheet)", 2 GND (power) "Ground pin", 3 OUT (power) "Regulated output voltage pin. A small 1-uF ceramic capacitor is needed from this pin to ground to assure stability. See Input and Output Capacitor Requirements in the Application Information section for more details", 4 NC "No connection. This pin can be tied to ground to improve thermal dissipation", 5 NC "No connection. This pin can be tied to ground to improve thermal dissipation", 6 EN (in) "Enable pin. Driving EN over 0.9 V turns on the regulator. Driving EN below 0.4 V puts the regulator into shutdown mode and reduces operating current to 1 uA, nominal"

## TLV70236DSET
designator U?
Single Output LDO, 300 mA, Fixed 3.6 V Output, 2 to 5.5 V Input, with Low IQ, 6-pin WSON (DSE), -40 to 125 degC, Green (RoHS & no Sb/Br); Manufacturer: Texas Instruments; PartNumber: TLV70236DSET; Accuracy(%): 2; Fixed Output Options(V): 3.6; Iout(Max)(A): 0.3; Iq(Typ)(mA): 0.03; SubFamily: Single Channel LDO; Vdo(Typ)(mV): 220; Vin(Max)(V): 5.5; DatasheetVersion: SLVSAG6B; PackageVersion: 4207810/A; PackageReference: DSE6; PackageDescription: 6-Pin Plastic Small Outline, Body 1.5 x 1.5 mm, Pitch 0.5 mm; Supplier 1: Digi-Key; Supplier Part Number 1: 296-32417-2-ND; Supplier 2: Digi-Key; Supplier Part Number 2: 296-32417-1-ND; Supplier 3: Digi-Key; Supplier Part Number 3: 296-32417-6-ND; Supplier 4: Newark; Supplier Part Number 4: 87T3944; Supplier 5: Mouser; Supplier Part Number 5: 595-TLV70236DSET; Eco-Plan: Green (RoHS & no Sb/Br); Vin(Min)(V): 2; Vout Adj(Max)(V): 3.6; Vout Adj(Min)(V): 3.6; Mounting Technology: Surface Mount; ComponentLink1Description: Manufacturer URL; ComponentLink1URL: http://www.ti.com/; ComponentLink2Description: Datasheet; ComponentLink2URL: http://www.ti.com/general/docs/lit/getliterature.tsp?genericPartNumber=TLV70236&fileType=pdf; ComponentLink3Description: Package Specification; ComponentLink3URL: http://www.ti.com/litv/pdf/mpds287
footprint TI-DSE6_V (SON, 6-Leads, Body 1.5x1.5mm, Pitch 0.5mm)
pins: 1 IN (power) "Input pin. A small 1-uF ceramic capacitor is recommended from this pin to ground to assure stability and good transient performance. See Input and Output Capacitor Requirements in the Application Information section for more (See Datasheet)", 2 GND (power) "Ground pin", 3 OUT (power) "Regulated output voltage pin. A small 1-uF ceramic capacitor is needed from this pin to ground to assure stability. See Input and Output Capacitor Requirements in the Application Information section for more details", 4 NC "No connection. This pin can be tied to ground to improve thermal dissipation", 5 NC "No connection. This pin can be tied to ground to improve thermal dissipation", 6 EN (in) "Enable pin. Driving EN over 0.9 V turns on the regulator. Driving EN below 0.4 V puts the regulator into shutdown mode and reduces operating current to 1 uA, nominal"

## TLV70237DBVR
designator U?
Single Output LDO, 300 mA, Fixed 3.7 V Output, 2 to 5.5 V Input, with Low IQ, 5-pin SOT-23 (DBV), -40 to 125 degC, Green (RoHS & no Sb/Br); Manufacturer: Texas Instruments; PartNumber: TLV70237DBVR; Accuracy(%): 2; Fixed Output Options(V): 3.7; Iout(Max)(A): 0.3; Iq(Typ)(mA): 0.03; SubFamily: Single Channel LDO; Vdo(Typ)(mV): 220; Vin(Max)(V): 5.5; DatasheetVersion: SLVSAG6B; PackageVersion: 4073253-4/K; PackageReference: DBV5; PackageDescription: 5-Pin Plastic Small Outline, Body 1.60 Ã— 2.90 mm, Pitch 0.95 mm; Supplier 1: Digi-Key; Supplier Part Number 1: 296-32418-2-ND; Supplier 2: Digi-Key; Supplier Part Number 2: 296-32418-1-ND; Supplier 3: Digi-Key; Supplier Part Number 3: 296-32418-6-ND; Supplier 4: Mouser; Supplier Part Number 4: 595-TLV70237DBVR; Eco-Plan: Green (RoHS & no Sb/Br); Vin(Min)(V): 2; Vout Adj(Max)(V): 3.7; Vout Adj(Min)(V): 3.7; Mounting Technology: Surface Mount; Code_JEDEC: MO-178; ComponentLink1Description: Manufacturer URL; ComponentLink1URL: http://www.ti.com/; ComponentLink2Description: Datasheet; ComponentLink2URL: http://www.ti.com/general/docs/lit/getliterature.tsp?genericPartNumber=TLV70237&fileType=pdf; ComponentLink3Description: Package Specification; ComponentLink3URL: http://www.ti.com/litv/pdf/mpds018i
footprint TI-DBV5_N (SOT23, 5-Leads, Body 2.9x1.6mm, Pitch 0.95mm, IPC Medium Density)
footprint TI-DBV5_L (SOT23, 5-Leads, Body 2.9x1.6mm, Pitch 0.95mm, IPC High Density)
footprint TI-DBV5_M (SOT23, 5-Leads, Body 2.9x1.6mm, Pitch 0.95mm, IPC Low Density)
pins: 1 IN (power) "Input supply voltage", 2 GND (power) "Ground", 3 EN (in) "Enable input", 4 NC "No connected", 5 OUT (power) "Regulated output voltage"

## TLV70237DBVT
designator U?
Single Output LDO, 300 mA, Fixed 3.7 V Output, 2 to 5.5 V Input, with Low IQ, 5-pin SOT-23 (DBV), -40 to 125 degC, Green (RoHS & no Sb/Br); Manufacturer: Texas Instruments; PartNumber: TLV70237DBVT; Accuracy(%): 2; Fixed Output Options(V): 3.7; Iout(Max)(A): 0.3; Iq(Typ)(mA): 0.03; SubFamily: Single Channel LDO; Vdo(Typ)(mV): 220; Vin(Max)(V): 5.5; DatasheetVersion: SLVSAG6B; PackageVersion: 4073253-4/K; PackageReference: DBV5; PackageDescription: 5-Pin Plastic Small Outline, Body 1.60 Ã— 2.90 mm, Pitch 0.95 mm; Supplier 1: Digi-Key; Supplier Part Number 1: 296-28338-2-ND; Supplier 2: Digi-Key; Supplier Part Number 2: 296-28338-1-ND; Supplier 3: Digi-Key; Supplier Part Number 3: 296-28338-6-ND; Supplier 4: Newark; Supplier Part Number 4: 40T5398; Supplier 5: Mouser; Supplier Part Number 5: 595-TLV70237DBVT; Eco-Plan: Green (RoHS & no Sb/Br); Vin(Min)(V): 2; Vout Adj(Max)(V): 3.7; Vout Adj(Min)(V): 3.7; Mounting Technology: Surface Mount; Code_JEDEC: MO-178; ComponentLink1Description: Manufacturer URL; ComponentLink1URL: http://www.ti.com/; ComponentLink2Description: Datasheet; ComponentLink2URL: http://www.ti.com/general/docs/lit/getliterature.tsp?genericPartNumber=TLV70237&fileType=pdf; ComponentLink3Description: Package Specification; ComponentLink3URL: http://www.ti.com/litv/pdf/mpds018i
footprint TI-DBV5_N (SOT23, 5-Leads, Body 2.9x1.6mm, Pitch 0.95mm, IPC Medium Density)
footprint TI-DBV5_L (SOT23, 5-Leads, Body 2.9x1.6mm, Pitch 0.95mm, IPC High Density)
footprint TI-DBV5_M (SOT23, 5-Leads, Body 2.9x1.6mm, Pitch 0.95mm, IPC Low Density)
pins: 1 IN (power) "Input supply voltage", 2 GND (power) "Ground", 3 EN (in) "Enable input", 4 NC "No connected", 5 OUT (power) "Regulated output voltage"

## TLV70245DBVR
designator U?
Single Output LDO, 300 mA, Fixed 4.5 V Output, 2 to 5.5 V Input, with Low IQ, 5-pin SOT-23 (DBV), -40 to 125 degC, Green (RoHS & no Sb/Br); Manufacturer: Texas Instruments; PartNumber: TLV70245DBVR; Accuracy(%): 2; Fixed Output Options(V): 4.5; Iout(Max)(A): 0.3; Iq(Typ)(mA): 0.03; SubFamily: Single Channel LDO; Vdo(Typ)(mV): 220; Vin(Max)(V): 5.5; DatasheetVersion: SLVSAG6B; PackageVersion: 4073253-4/K; PackageReference: DBV5; PackageDescription: 5-Pin Plastic Small Outline, Body 1.60 Ã— 2.90 mm, Pitch 0.95 mm; Supplier 1: Digi-Key; Supplier Part Number 1: TLV70245DBVR-ND; Supplier 2: Newark; Supplier Part Number 2: 94T1797; Supplier 3: Mouser; Supplier Part Number 3: 595-TLV70245DBVR; Eco-Plan: Green (RoHS & no Sb/Br); Vin(Min)(V): 2; Vout Adj(Max)(V): 4.5; Vout Adj(Min)(V): 4.5; Mounting Technology: Surface Mount; Code_JEDEC: MO-178; ComponentLink1Description: Manufacturer URL; ComponentLink1URL: http://www.ti.com/; ComponentLink2Description: Datasheet; ComponentLink2URL: http://www.ti.com/general/docs/lit/getliterature.tsp?genericPartNumber=TLV70245&fileType=pdf; ComponentLink3Description: Package Specification; ComponentLink3URL: http://www.ti.com/litv/pdf/mpds018i
footprint TI-DBV5_N (SOT23, 5-Leads, Body 2.9x1.6mm, Pitch 0.95mm, IPC Medium Density)
footprint TI-DBV5_L (SOT23, 5-Leads, Body 2.9x1.6mm, Pitch 0.95mm, IPC High Density)
footprint TI-DBV5_M (SOT23, 5-Leads, Body 2.9x1.6mm, Pitch 0.95mm, IPC Low Density)
pins: 1 IN (power) "Input supply voltage", 2 GND (power) "Ground", 3 EN (in) "Enable input", 4 NC "No connected", 5 OUT (power) "Regulated output voltage"

## TLV70245DBVT
designator U?
Single Output LDO, 300 mA, Fixed 4.5 V Output, 2 to 5.5 V Input, with Low IQ, 5-pin SOT-23 (DBV), -40 to 125 degC, Green (RoHS & no Sb/Br); Manufacturer: Texas Instruments; PartNumber: TLV70245DBVT; Accuracy(%): 2; Fixed Output Options(V): 4.5; Iout(Max)(A): 0.3; Iq(Typ)(mA): 0.03; SubFamily: Single Channel LDO; Vdo(Typ)(mV): 220; Vin(Max)(V): 5.5; DatasheetVersion: SLVSAG6B; PackageVersion: 4073253-4/K; PackageReference: DBV5; PackageDescription: 5-Pin Plastic Small Outline, Body 1.60 Ã— 2.90 mm, Pitch 0.95 mm; Supplier 1: Digi-Key; Supplier Part Number 1: 296-30480-2-ND; Supplier 2: Digi-Key; Supplier Part Number 2: 296-30480-1-ND; Supplier 3: Digi-Key; Supplier Part Number 3: 296-30480-6-ND; Supplier 4: Farnell; Supplier Part Number 4: 2144267; Supplier 5: Newark; Supplier Part Number 5: 94T1798; Supplier 6: Newark; Supplier Part Number 6: 27W5369; Supplier 7: Mouser; Supplier Part Number 7: 595-TLV70245DBVT; Eco-Plan: Green (RoHS & no Sb/Br); Vin(Min)(V): 2; Vout Adj(Max)(V): 4.5; Vout Adj(Min)(V): 4.5; Mounting Technology: Surface Mount; Code_JEDEC: MO-178; ComponentLink1Description: Manufacturer URL; ComponentLink1URL: http://www.ti.com/; ComponentLink2Description: Datasheet; ComponentLink2URL: http://www.ti.com/general/docs/lit/getliterature.tsp?genericPartNumber=TLV70245&fileType=pdf; ComponentLink3Description: Package Specification; ComponentLink3URL: http://www.ti.com/litv/pdf/mpds018i
footprint TI-DBV5_N (SOT23, 5-Leads, Body 2.9x1.6mm, Pitch 0.95mm, IPC Medium Density)
footprint TI-DBV5_L (SOT23, 5-Leads, Body 2.9x1.6mm, Pitch 0.95mm, IPC High Density)
footprint TI-DBV5_M (SOT23, 5-Leads, Body 2.9x1.6mm, Pitch 0.95mm, IPC Low Density)
pins: 1 IN (power) "Input supply voltage", 2 GND (power) "Ground", 3 EN (in) "Enable input", 4 NC "No connected", 5 OUT (power) "Regulated output voltage"

## TLV70430DBVR
designator U?
Single Output LDO, 150 mA, Fixed 3 V Output, 2.5 to 24 V Input, with Ultra-Low IQ, 5-pin SOT-23 (DBV), -40 to 125 degC, Green (RoHS & no Sb/Br); Manufacturer: Texas Instruments; PartNumber: TLV70430DBVR; Accuracy(%): 2; Fixed Output Options(V): 3; Iout(Max)(A): 0.15; Iq(Typ)(mA): 0.003; SubFamily: Single Channel LDO; Vdo(Typ)(mV): 400; Vin(Max)(V): 24; Vin(Min)(V): 2.5; DatasheetVersion: SBVS148C; PackageVersion: 4073253-4/K; PackageReference: DBV5; PackageDescription: 5-Pin Plastic Small Outline, Body 1.60 Ã— 2.90 mm, Pitch 0.95 mm; Supplier 1: Digi-Key; Supplier Part Number 1: 296-27945-2-ND; Supplier 2: Digi-Key; Supplier Part Number 2: 296-27945-1-ND; Supplier 3: Digi-Key; Supplier Part Number 3: 296-27945-6-ND; Supplier 4: Newark; Supplier Part Number 4: 13T5911; Supplier 5: Mouser; Supplier Part Number 5: 595-TLV70430DBVR; Eco-Plan: Green (RoHS & no Sb/Br); Vout Adj(Max)(V): 3; Vout Adj(Min)(V): 3; Mounting Technology: Surface Mount; Code_JEDEC: MO-178; ComponentLink1Description: Manufacturer URL; ComponentLink1URL: http://www.ti.com/; ComponentLink2Description: Datasheet; ComponentLink2URL: http://www.ti.com/general/docs/lit/getliterature.tsp?genericPartNumber=TLV70430&fileType=pdf; ComponentLink3Description: Package Specification; ComponentLink3URL: http://www.ti.com/litv/pdf/mpds018i
footprint TI-DBV5_N (SOT23, 5-Leads, Body 2.9x1.6mm, Pitch 0.95mm, IPC Medium Density)
footprint TI-DBV5_L (SOT23, 5-Leads, Body 2.9x1.6mm, Pitch 0.95mm, IPC High Density)
footprint TI-DBV5_M (SOT23, 5-Leads, Body 2.9x1.6mm, Pitch 0.95mm, IPC Low Density)
pins: 1 GND (power) "Ground", 2 IN (power) "Unregulated input voltage", 3 OUT (power) "Regulated output voltage. Any capacitor 1 uF or greater between this pin and ground is needed for stability", 4 NC "No connection. This pin can be left open or tied to ground for improved thermal performance", 5 NC "No connection. This pin can be left open or tied to ground for improved thermal performance"

## TLV70430DBVT
designator U?
Single Output LDO, 150 mA, Fixed 3 V Output, 2.5 to 24 V Input, with Ultra-Low IQ, 5-pin SOT-23 (DBV), -40 to 125 degC, Green (RoHS & no Sb/Br); Manufacturer: Texas Instruments; PartNumber: TLV70430DBVT; Accuracy(%): 2; Fixed Output Options(V): 3; Iout(Max)(A): 0.15; Iq(Typ)(mA): 0.003; SubFamily: Single Channel LDO; Vdo(Typ)(mV): 400; Vin(Max)(V): 24; Vin(Min)(V): 2.5; DatasheetVersion: SBVS148C; PackageVersion: 4073253-4/K; PackageReference: DBV5; PackageDescription: 5-Pin Plastic Small Outline, Body 1.60 Ã— 2.90 mm, Pitch 0.95 mm; Supplier 1: Digi-Key; Supplier Part Number 1: 296-32419-2-ND; Supplier 2: Digi-Key; Supplier Part Number 2: 296-32419-1-ND; Supplier 3: Digi-Key; Supplier Part Number 3: 296-32419-6-ND; Supplier 4: Mouser; Supplier Part Number 4: 595-TLV70430DBVT; Eco-Plan: Green (RoHS & no Sb/Br); Vout Adj(Max)(V): 3; Vout Adj(Min)(V): 3; Mounting Technology: Surface Mount; Code_JEDEC: MO-178; ComponentLink1Description: Manufacturer URL; ComponentLink1URL: http://www.ti.com/; ComponentLink2Description: Datasheet; ComponentLink2URL: http://www.ti.com/general/docs/lit/getliterature.tsp?genericPartNumber=TLV70430&fileType=pdf; ComponentLink3Description: Package Specification; ComponentLink3URL: http://www.ti.com/litv/pdf/mpds018i
footprint TI-DBV5_N (SOT23, 5-Leads, Body 2.9x1.6mm, Pitch 0.95mm, IPC Medium Density)
footprint TI-DBV5_L (SOT23, 5-Leads, Body 2.9x1.6mm, Pitch 0.95mm, IPC High Density)
footprint TI-DBV5_M (SOT23, 5-Leads, Body 2.9x1.6mm, Pitch 0.95mm, IPC Low Density)
pins: 1 GND (power) "Ground", 2 IN (power) "Unregulated input voltage", 3 OUT (power) "Regulated output voltage. Any capacitor 1 uF or greater between this pin and ground is needed for stability", 4 NC "No connection. This pin can be left open or tied to ground for improved thermal performance", 5 NC "No connection. This pin can be left open or tied to ground for improved thermal performance"

## TLV70433DBVR
designator U?
Single Output LDO, 150 mA, Fixed 3.3 V Output, 2.5 to 24 V Input, with Ultra-Low IQ, 5-pin SOT-23 (DBV), -40 to 125 degC, Green (RoHS & no Sb/Br); Manufacturer: Texas Instruments; PartNumber: TLV70433DBVR; Accuracy(%): 2; Fixed Output Options(V): 3.3; Iout(Max)(A): 0.15; Iq(Typ)(mA): 0.003; SubFamily: Single Channel LDO; Vdo(Typ)(mV): 400; Vin(Max)(V): 24; Vin(Min)(V): 2.5; DatasheetVersion: SBVS148C; PackageVersion: 4073253-4/K; PackageReference: DBV5; PackageDescription: 5-Pin Plastic Small Outline, Body 1.60 Ã— 2.90 mm, Pitch 0.95 mm; Supplier 1: Digi-Key; Supplier Part Number 1: TLV70433DBVR-ND; Supplier 2: Newark; Supplier Part Number 2: 13T5913; Supplier 3: Mouser; Supplier Part Number 3: 595-TLV70433DBVR; Eco-Plan: Green (RoHS & no Sb/Br); Vout Adj(Max)(V): 3.3; Vout Adj(Min)(V): 3.3; Mounting Technology: Surface Mount; Code_JEDEC: MO-178; ComponentLink1Description: Manufacturer URL; ComponentLink1URL: http://www.ti.com/; ComponentLink2Description: Datasheet; ComponentLink2URL: http://www.ti.com/general/docs/lit/getliterature.tsp?genericPartNumber=TLV70433&fileType=pdf; ComponentLink3Description: Package Specification; ComponentLink3URL: http://www.ti.com/litv/pdf/mpds018i
footprint TI-DBV5_N (SOT23, 5-Leads, Body 2.9x1.6mm, Pitch 0.95mm, IPC Medium Density)
footprint TI-DBV5_L (SOT23, 5-Leads, Body 2.9x1.6mm, Pitch 0.95mm, IPC High Density)
footprint TI-DBV5_M (SOT23, 5-Leads, Body 2.9x1.6mm, Pitch 0.95mm, IPC Low Density)
pins: 1 GND (power) "Ground", 2 IN (power) "Unregulated input voltage", 3 OUT (power) "Regulated output voltage. Any capacitor 1 uF or greater between this pin and ground is needed for stability", 4 NC "No connection. This pin can be left open or tied to ground for improved thermal performance", 5 NC "No connection. This pin can be left open or tied to ground for improved thermal performance"

## TLV70433DBVT
designator U?
Single Output LDO, 150 mA, Fixed 3.3 V Output, 2.5 to 24 V Input, with Ultra-Low IQ, 5-pin SOT-23 (DBV), -40 to 125 degC, Green (RoHS & no Sb/Br); Manufacturer: Texas Instruments; PartNumber: TLV70433DBVT; Accuracy(%): 2; Fixed Output Options(V): 3.3; Iout(Max)(A): 0.15; Iq(Typ)(mA): 0.003; SubFamily: Single Channel LDO; Vdo(Typ)(mV): 400; Vin(Max)(V): 24; Vin(Min)(V): 2.5; DatasheetVersion: SBVS148C; PackageVersion: 4073253-4/K; PackageReference: DBV5; PackageDescription: 5-Pin Plastic Small Outline, Body 1.60 Ã— 2.90 mm, Pitch 0.95 mm; Supplier 1: Digi-Key; Supplier Part Number 1: 296-27946-2-ND; Supplier 2: Digi-Key; Supplier Part Number 2: 296-27946-1-ND; Supplier 3: Digi-Key; Supplier Part Number 3: 296-27946-6-ND; Supplier 4: Farnell; Supplier Part Number 4: 2075417; Supplier 5: Newark; Supplier Part Number 5: 82T3155; Supplier 6: Newark; Supplier Part Number 6: 13T5914; Supplier 7: Mouser; Supplier Part Number 7: 595-TLV70433DBVT; Eco-Plan: Green (RoHS & no Sb/Br); Vout Adj(Max)(V): 3.3; Vout Adj(Min)(V): 3.3; Mounting Technology: Surface Mount; Code_JEDEC: MO-178; ComponentLink1Description: Manufacturer URL; ComponentLink1URL: http://www.ti.com/; ComponentLink2Description: Datasheet; ComponentLink2URL: http://www.ti.com/general/docs/lit/getliterature.tsp?genericPartNumber=TLV70433&fileType=pdf; ComponentLink3Description: Package Specification; ComponentLink3URL: http://www.ti.com/litv/pdf/mpds018i
footprint TI-DBV5_N (SOT23, 5-Leads, Body 2.9x1.6mm, Pitch 0.95mm, IPC Medium Density)
footprint TI-DBV5_L (SOT23, 5-Leads, Body 2.9x1.6mm, Pitch 0.95mm, IPC High Density)
footprint TI-DBV5_M (SOT23, 5-Leads, Body 2.9x1.6mm, Pitch 0.95mm, IPC Low Density)
pins: 1 GND (power) "Ground", 2 IN (power) "Unregulated input voltage", 3 OUT (power) "Regulated output voltage. Any capacitor 1 uF or greater between this pin and ground is needed for stability", 4 NC "No connection. This pin can be left open or tied to ground for improved thermal performance", 5 NC "No connection. This pin can be left open or tied to ground for improved thermal performance"